# Altium footprint library SOT416_SC75.PcbLib: 1 footprints
Each footprint in its own frame and in the unit in brackets; x right, y up, seen from the top. Pads: shape width x height; smd on the part's side, far side on the other; paste and mask are expansions set on the pad; w line width, h text height; cw(c..) or ccw(c..) is an arc to the next point about the centre after c.
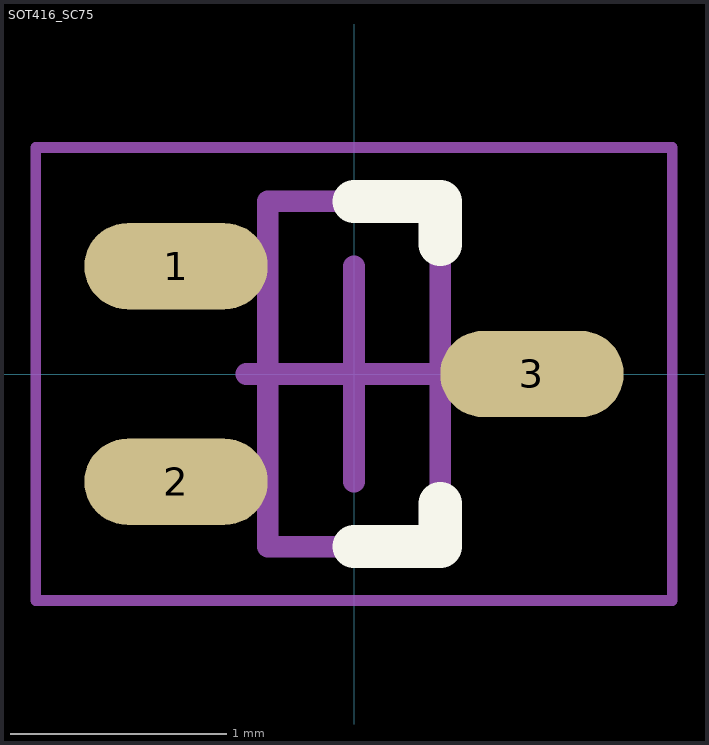
[diagram p0: the footprint, top view; thin cyan lines are the x and y axes]

## SOT416_SC75 [mm] "SOT23, 3-Leads, Body 1,60x1,65mm, Pitch 0,50mm, IPC Medium Density"
height 0.8
pads (3):
  oval 0.85x0.4 smd mask+0.05: 1(-0.825,0.5) 2(-0.825,-0.5) 3(0.825,0)
Top Overlay:
  lines w0.2: 0,-0.8 0.4,-0.8 0.4,-0.6 ; 0,0.8 0.4,0.8 0.4,0.6
Mechanical 14:
  lines w0.1: -0.4,-0.8 0.4,-0.8 0.4,0.8 -0.4,0.8 -0.4,-0.8
Mechanical 15:
  lines w0.05: -1.475,-1.05 1.475,-1.05 1.475,1.05 -1.475,1.05 -1.475,-1.05
  lines w0.1: -0.5,0 0.5,0 ; 0,-0.5 0,0.5
Mechanical 17:
  text "'.Designator'" at -0.254,0.762 h0.13
3D body "mos.STEP": height 0.8, standoff -0.02, extent -0.95,-0.8 0.95,0.8